# Altium footprint library Pcblib_20110825.Pcblib: 408 footprints (part 10 of 26)
Each footprint in its own frame and in the unit in brackets; x right, y up, seen from the top. Pads: shape width x height; smd on the part's side, far side on the other; paste and mask are expansions set on the pad; w line width, h text height; cw(c..) or ccw(c..) is an arc to the next point about the centre after c.
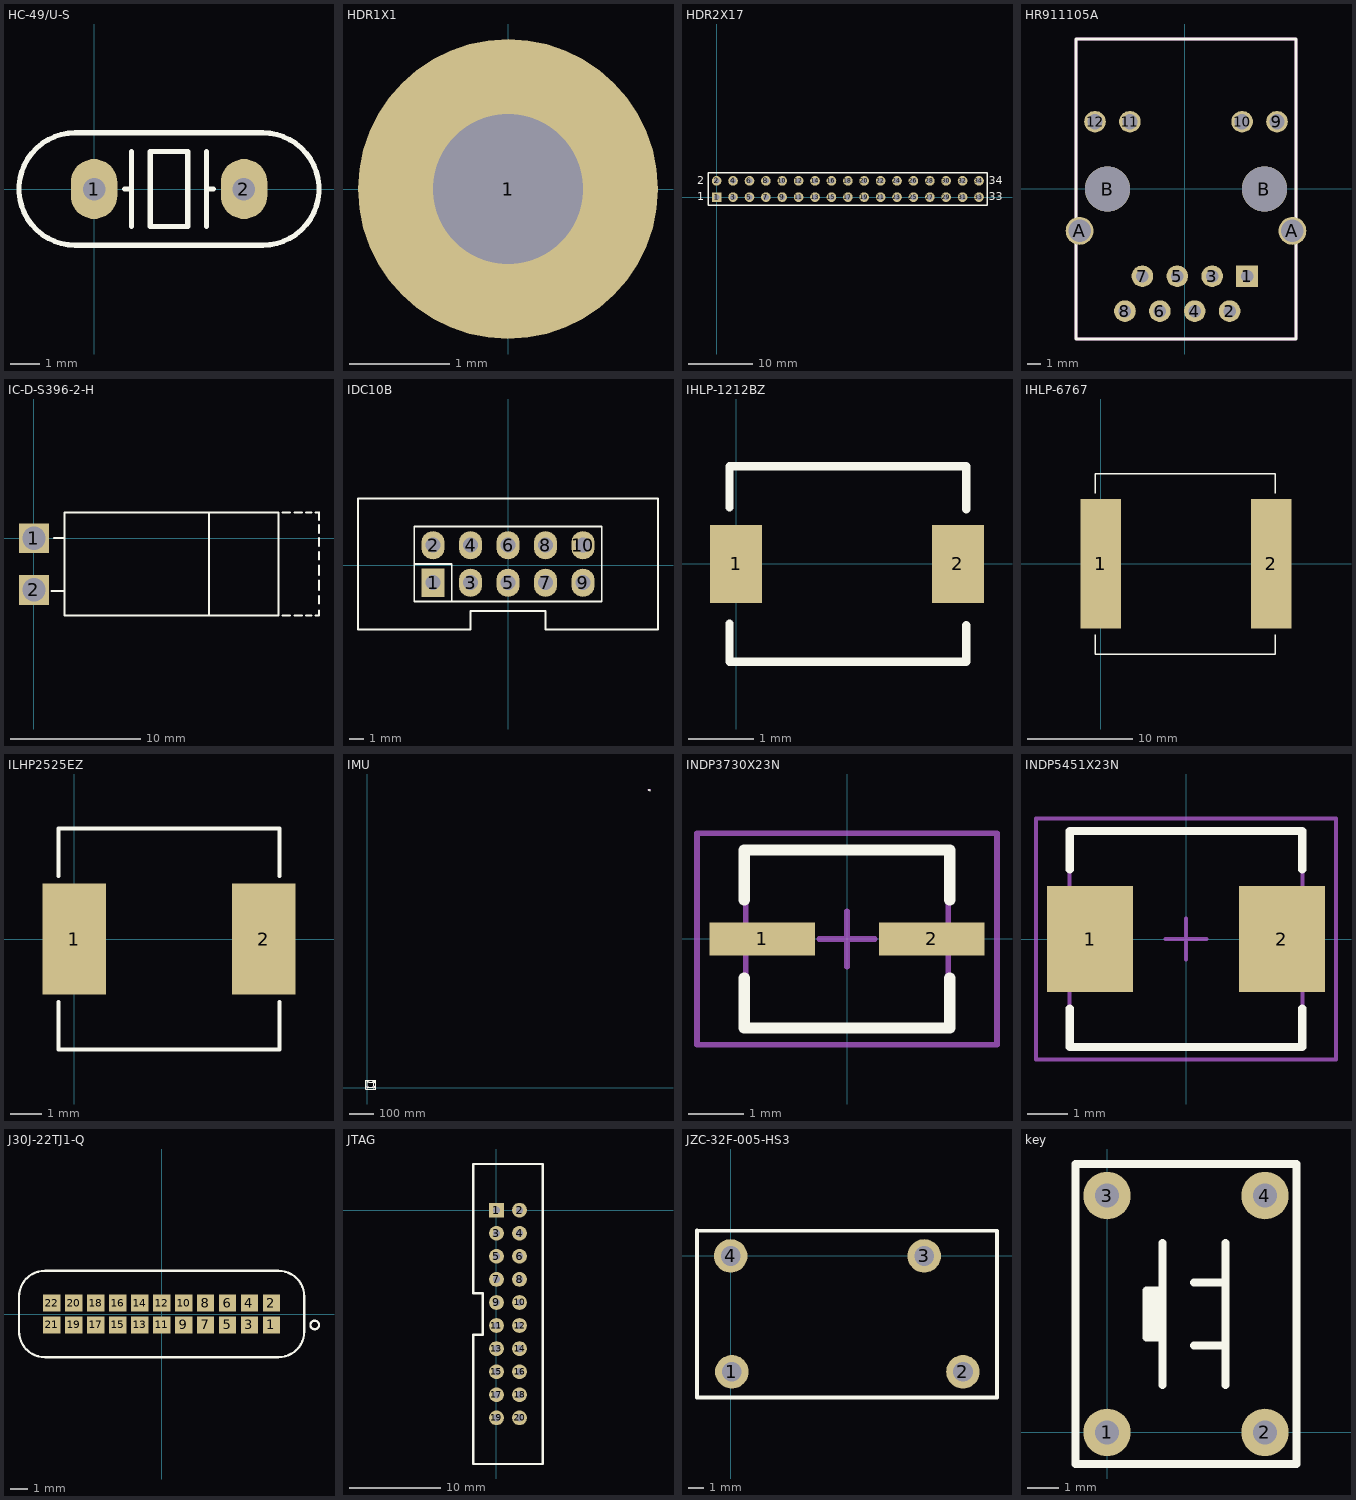
[diagram p9: the footprints below, top view; thin cyan lines are the x and y axes]

## HC-49/U-S [mil]
pads (2):
  oval 62x80 hole 30: 1(0,0) 2(200,0)
TopOverlay:
  lines w7: 40.94,0 50,0 ; 50,-50 50,50 ; 150,-50 150,50 ; 150,0 159.06,0 ; -25,-75 cw(c-25,0) -25,75 225,75 cw(c225,0) 225,-75 -25,-75 ; 75,-50 125,-50 125,50 75,50 75,-50

## HDR1X1 [mm]
height 29
pads (1):
  round 3 hole 1.5: 1(0,0)

## HDR2X17 [mm] "Connector; Header; 17x2 Position"
height 12
pads (34):
  rect 1.5x1.5 hole 0.9: 1(0,0)
  round 1.5 hole 0.9: 2(0,2.54) 3(2.54,0) 4(2.54,2.54) 5(5.08,0) 6(5.08,2.54) 7(7.62,0) 8(7.62,2.54) 9(10.16,0) 10(10.16,2.54) 11(12.7,0) 12(12.7,2.54) 13(15.24,0) 14(15.24,2.54) 15(17.78,0) 16(17.78,2.54) 17(20.32,0) 18(20.32,2.54) 19(22.86,0) 20(22.86,2.54) 21(25.4,0) 22(25.4,2.54) 23(27.94,0) 24(27.94,2.54) 25(30.48,0) 26(30.48,2.54) 27(33.02,0) 28(33.02,2.54) 29(35.56,0) 30(35.56,2.54) 31(38.1,0) 32(38.1,2.54) 33(40.64,0) 34(40.64,2.54)
TopOverlay:
  lines w0.2: -1.27,-1.27 41.91,-1.27 41.91,3.81 -1.27,3.81 -1.27,-1.27
  text "34" at 42.164,2.032 h1.27
  text "33" at 42.164,-0.508 h1.27
  text "1" at -3.048,-0.508 h1.27
  text "2" at -3.048,2.032 h1.27

## HR911105A [mil]
pads (16):
  rect 62x62 hole 36: 1(179,-251.39)
  round 62 hole 36: 2(129,-351.39) 3(79,-251.39) 4(29,-351.39) 5(-21,-251.39) 6(-71,-351.39) 7(-121,-251.39) 8(-171,-351.39)
  round 62 hole 43.31: 9(264.83,191.53) 10(164.83,191.53) 11(-156.83,191.53) 12(-256.83,191.53)
  round 80 hole 65: A(-301,-121.39) A(309,-121.39)
  round 130 hole 130: B(-221,-1.39) B(229,-1.39)
TopOverlay keep-out:
  lines w8: -311,-431.39 -311,428.61 319,428.61 319,-431.39 -311,-431.39

## IC-D-S396-2-H [mm]
pads (2):
  rect 2.3x2.3 hole 1.8: 1(0,0) 2(0,-3.96)
TopOverlay:
  lines w0.152: 1.346,-4.037 2.362,-4.037 ; 1.524,0.027 2.362,0.027 ; 13.437,-5.866 13.437,1.98 ; 19.101,-5.942 19.66,-5.942 ; 19.101,1.982 19.66,1.982 ; 20.015,-5.942 20.574,-5.942 ; 20.015,1.982 20.574,1.982 ; 20.879,-5.942 21.336,-5.942 ; 20.879,1.982 21.336,1.982 ; 21.618,-5.94 21.892,-5.94 21.892,-5.534 ; 21.618,1.985 21.892,1.985 ; 21.892,1.98 21.895,1.978 21.895,1.398 ; 21.895,-5.003 21.895,-4.444 ; 21.895,-3.987 21.895,-3.25 ; 21.895,-2.818 21.895,-2.107 ; 21.895,-1.65 21.895,-1.04 ; 21.895,-0.608 21.895,0.027 ; 21.895,0.408 21.895,1.017 ; 2.362,-5.94 18.8,-5.94 18.8,1.98 2.362,1.98 2.362,-5.94

## IDC10B [mil]
height 55.12
pads (10):
  rect 62x75 hole 40: 1(-200.25,-46.61)
  oval 62x75 hole 40: 2(-200.25,53.39) 3(-100.25,-46.61) 4(-100.25,53.39) 5(-0.24,-46.61) 6(-0.24,53.39) 7(99.75,-46.61) 8(99.75,53.39) 9(199.75,-46.61) 10(199.75,53.39)
TopOverlay:
  lines w5: -250.25,3.39 -150.25,3.39 -150.25,-96.61 ; -400.25,-171.61 -100.25,-171.61 -100.25,-121.61 99.75,-121.61 99.75,-171.61 399.75,-171.61 399.75,178.39 -400.25,178.39 -400.25,-171.61 ; -250.25,-96.61 49.76,-96.61 249.75,-96.61 249.75,103.39 -250.25,103.39 -250.25,-96.61

## IHLP-1212BZ [mm]
pads (2):
  rect 0.8x1.2 smd: 1(0,0) 2(3.4,0)
TopOverlay:
  lines w0.127: -0.102,-0.914 -0.102,-1.501 3.531,-1.501 3.531,-0.94 ; -0.102,0.864 -0.102,1.499 3.531,1.499 3.531,0.838

## IHLP-6767 [mm]
height 7
pads (2):
  rect 3.825x12.32 smd: 1(0,0) 2(16.245,0)
TopOverlay:
  lines w0.127: -0.513,-6.751 -0.513,-8.585 16.637,-8.585 16.637,-6.751 ; -0.513,6.731 -0.513,8.565 16.637,8.565 16.637,6.731

## ILHP2525EZ [mm]
pads (2):
  rect 2x3.5 smd: 1(0,0) 2(6,0)
TopOverlay:
  lines w0.127: -0.5,-2 -0.5,-3.5 6.5,-3.5 6.5,-2 ; -0.5,2 -0.5,3.5 6.5,3.5 6.5,2

## IMU [mm]
pads (45):
  rect 1.5x2.5 smd: 0(1142.334,1206.296)
  rect 0.305x0.864 smd: 1(1143.084,1204.035) 10(1143.084,1208.546) 11(1141.572,1208.546) 20(1141.572,1204.035)
  oval 1.7x0.35 smd: 1(1145.159,1204.021) 2(1145.159,1204.671) 3(1145.159,1205.321) 4(1145.159,1205.971) 5(1145.159,1206.621) 6(1145.159,1207.271) 7(1145.159,1207.921) 8(1145.159,1208.571) 9(1139.509,1208.571) 10(1139.509,1207.921) 11(1139.509,1207.271) 12(1139.509,1206.621) 13(1139.509,1205.971) 14(1139.509,1205.321) 15(1139.509,1204.671) 16(1139.509,1204.021)
  rect 0.864x0.305 smd: 2(1144.084,1204.543) 3(1144.084,1205.026) 4(1144.084,1205.534) 5(1144.084,1206.042) 6(1144.084,1206.546) 7(1144.084,1207.046) 8(1144.084,1207.546) 9(1144.084,1208.046) 12(1140.582,1208.046) 13(1140.582,1207.546) 14(1140.582,1207.046) 15(1140.582,1206.546) 16(1140.582,1206.042) 17(1140.582,1205.534) 18(1140.582,1205.026) 19(1140.582,1204.543)
  rect 0.65x1.35 smd: A(1142.334,1206.296) A(1142.334,1206.296) A(1142.334,1206.296) A(1142.334,1206.296) K(1144.734,1206.296) K(1144.734,1206.296) K(1144.734,1206.296) K(1144.734,1206.296)
TopOverlay:
  circle w0.6: c1142.909,1204.746 r0.3
  circle w0.25: c1145.159,1203.296 r0.125
  circle w0.127: c1144.334,1203.781 r0.076
  lines w0.127: -5.283,31.416 34.717,31.416 ; -5.259,23.391 -5.259,-4.609 ; -5.259,31.391 -5.259,-4.609 ; 34.717,-4.584 34.717,31.416 ; 34.717,3.416 34.717,31.416 ; 34.741,-4.609 -5.259,-4.609 ; 1142.309,1205.496 1144.773,1205.496 ; 1142.309,1205.496 1144.773,1205.496 ; 1142.309,1205.496 1144.773,1205.496 ; 1142.309,1205.496 1144.773,1205.496 ; 1142.309,1207.096 1144.773,1207.096 ; 1142.309,1207.096 1144.773,1207.096 ; 1142.309,1207.096 1144.773,1207.096 ; 1142.309,1207.096 1144.773,1207.096 ; 1143.131,1205.788 1143.131,1206.788 ; 1143.131,1205.788 1143.631,1206.288 ; 1143.131,1205.788 1143.131,1206.788 ; 1143.131,1205.788 1143.631,1206.288 ; 1143.131,1205.788 1143.131,1206.788 ; 1143.131,1205.788 1143.631,1206.288 ; 1143.131,1205.788 1143.131,1206.788 ; 1143.131,1205.788 1143.631,1206.288 ; 1143.131,1206.788 1143.631,1206.288 ; 1143.131,1206.788 1143.631,1206.288 ; 1143.131,1206.788 1143.631,1206.288 ; 1143.131,1206.788 1143.631,1206.288 ; 1143.731,1205.788 1143.731,1206.788 ; 1143.731,1205.788 1143.731,1206.788 ; 1143.731,1205.788 1143.731,1206.788 ; 1143.731,1205.788 1143.731,1206.788 ; -1.103,2.249 cw(c0.804,2.852) -0.741,4.121 1.257,6.553 ccw(c-0.289,7.823) 1.711,7.823 1.711,19.086 ccw(c-0.289,19.086) 1.257,20.356 -0.741,22.788 cw(c0.804,24.057) -1.103,24.66 cw(c2.711,23.454) 1.89,27.369 cw(c2.301,25.412) 3.846,26.681 5.897,24.185 ccw(c7.442,25.454) 7.442,23.454 21.98,23.454 ccw(c21.98,25.454) 23.525,24.185 25.576,26.681 cw(c27.122,25.412) 27.532,27.369 cw(c26.711,23.454) 30.525,24.66 cw(c28.618,24.057) 30.164,22.788 28.166,20.356 ccw(c29.711,19.086) 27.711,19.086 27.711,7.823 ccw(c29.711,7.823) 28.166,6.553 30.164,4.121 cw(c28.618,2.852) 30.525,2.249 cw(c26.711,3.454) 27.532,-0.46 cw(c27.122,1.497) 25.576,0.227 23.525,2.724 ccw(c21.98,1.454) 21.98,3.454 7.442,3.454 ccw(c7.442,1.454) 5.897,2.724 3.846,0.227 cw(c2.301,1.497) 1.89,-0.46 cw(c2.711,3.454) -1.103,2.249 ; 1139.794,1203.375 1144.874,1203.375 1144.874,1209.217 1139.794,1209.217 1139.794,1203.375
  lines w0.2: 1140.759,1203.746 1143.909,1203.746 1143.909,1208.846 1140.759,1208.846 1140.759,1203.746
Mechanical1:
  circle w0.127: c2.211,2.954 r1.3
  circle w0.127: c27.211,2.954 r1.3
  circle w0.127: c2.211,23.954 r1.3
  circle w0.127: c27.211,23.954 r1.3
Mechanical13:
  circle w0.1: c1143.634,1204.696 r0.5
  lines w0.1: 1140.084,1203.746 1144.584,1203.746 1144.584,1208.846 1140.084,1208.846 1140.084,1203.746
Mechanical15:
  lines w0.1: 1141.834,1206.296 1142.834,1206.296 ; 1142.334,1205.796 1142.334,1206.796 ; 1138.409,1203.496 1146.259,1203.496 1146.259,1209.096 1138.409,1209.096 1138.409,1203.496
3D body: height 2.65, standoff 0.1, extent 1140.084,1203.746 1144.584,1208.846

## INDP3730X23N [mm] "Precision Wire Wound Inductor, 2-Leads, Body 3.7x3.0mm, IPC Medium Density"
height 2.29
pads (2):
  rect 1.9x0.6 smd: 1(-1.525,0) 2(1.525,0)
TopOverlay:
  lines w0.2: -1.85,-0.7 -1.85,-1.6 1.85,-1.6 1.85,-0.7 ; -1.85,0.7 -1.85,1.6 1.85,1.6 1.85,0.7
Mechanical13:
  lines w0.1: -1.825,-1.6 1.825,-1.6 1.825,1.6 -1.825,1.6 -1.825,-1.6
Mechanical15:
  lines w0.1: -0.5,0 0.5,0 ; 0,-0.5 0,0.5 ; -2.7,-1.9 2.7,-1.9 2.7,1.9 -2.7,1.9 -2.7,-1.9
3D body: height 2.29, standoff 0, extent -1.825,-1.6 1.825,1.6

## INDP5451X23N [mm] "Precision Wire Wound Inductor, 2-Leads, Body 5.4x5.1mm, IPC Medium Density"
height 2.29
pads (2):
  rect 2.1x2.6 smd: 1(-2.35,0) 2(2.35,0)
TopOverlay:
  lines w0.2: -2.85,-1.7 -2.85,-2.65 2.85,-2.65 2.85,-1.7 ; -2.85,1.7 -2.85,2.65 2.85,2.65 2.85,1.7
Mechanical13:
  lines w0.1: -2.85,-2.65 -2.85,2.65 2.85,2.65 2.85,-2.65 -2.85,-2.65
Mechanical15:
  lines w0.1: -0.5,0 0.5,0 ; 0,-0.5 0,0.5 ; -3.675,-2.95 -3.675,2.95 3.675,2.95 3.675,-2.95 -3.675,-2.95
3D body: height 2.29, standoff 0, extent -2.85,-2.65 2.85,2.65

## J30J-22TJ1-Q [mm] "J30J-22TJ1-Q"
pads (22):
  rect 1x1 smd: 1(6.35,-0.635) 2(6.35,0.635) 3(5.08,-0.635) 4(5.08,0.635) 5(3.81,-0.635) 6(3.81,0.635) 7(2.54,-0.635) 8(2.54,0.635) 9(1.27,-0.635) 10(1.27,0.635) 11(0,-0.635) 12(0,0.635) 13(-1.27,-0.635) 14(-1.27,0.635) 15(-2.54,-0.635) 16(-2.54,0.635) 17(-3.81,-0.635) 18(-3.81,0.635) 19(-5.08,-0.635) 20(-5.08,0.635) 21(-6.35,-0.635) 22(-6.35,0.635)
TopOverlay:
  circle w0.127: c8.85,-0.635 r0.25
  lines w0.127: -8.25,-1 ccw(c-6.75,-1) -6.75,-2.5 6.75,-2.5 ccw(c6.75,-1) 8.25,-1 8.25,1 ccw(c6.75,1) 6.75,2.5 -6.75,2.5 ccw(c-6.75,1) -8.25,1 -8.25,-1

## JTAG [mil]
pads (20):
  rect 64x64 hole 32: 1(0,0)
  round 64 hole 32: 2(100,0) 3(0,-100) 4(100,-100) 5(0,-200) 6(100,-200) 7(0,-300) 8(100,-300) 9(0,-400) 10(100,-400) 11(0,-500) 12(100,-500) 13(0,-600) 14(100,-600) 15(0,-700) 16(100,-700) 17(0,-800) 18(100,-800) 19(0,-900) 20(100,-900)
TopOverlay:
  lines w10: -100,-1100 200,-1100 200,200 0,200 -100,200 -100,-360 -60,-360 -60,-540 -100,-540 -100,-1100

## JZC-32F-005-HS3 [mm]
pads (4):
  round 2.2 hole 1.3: 1(0.076,-7.6) 2(15.24,-7.6) 3(12.7,0) 4(0,0)
TopOverlay:
  lines w0.254: -2.21,1.676 -2.21,-9.296 17.475,-9.296 17.475,1.656 -2.184,1.656

## key [mil]
pads (4):
  round 60 hole 30: 1(0,0) 2(200,0) 3(0,300) 4(200,300)
TopOverlay:
  lines w10: 60,120 60,180 ; 70,60 70,240 ; 70,120 50,120 50,180 70,180 ; 110,110 150,110 ; 110,190 150,190 ; 150,60 150,140 ; 150,120 150,240 ; -40,-40 -40,340 240,340 240,-40 0,-40 -40,-40